# Altium schematic symbol library 心率血氧.SchLib: 7 symbols
Pins are listed as number, name and electrical type; pins without a type are passive.

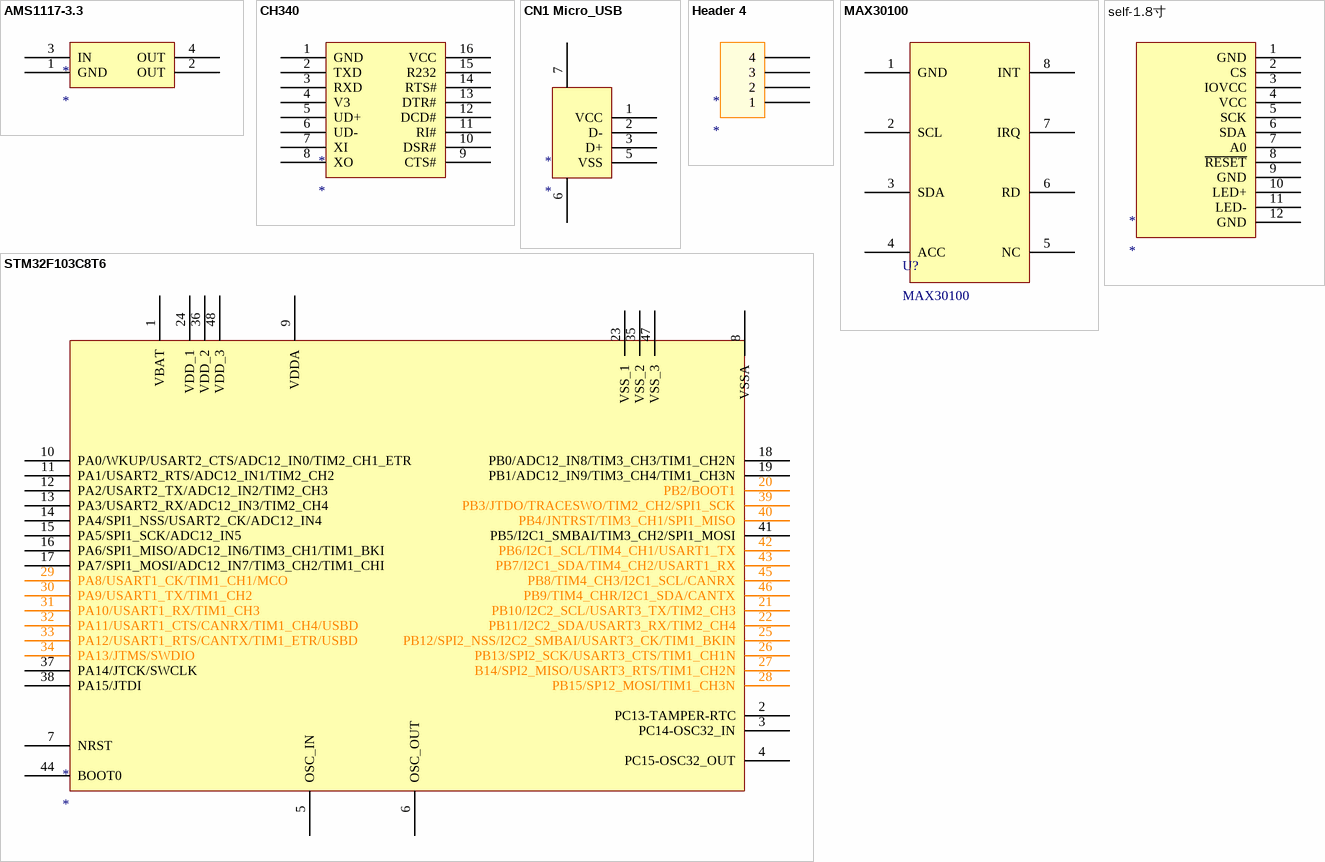
[diagram p0: symbols AMS1117-3.3 to STM32F103C8T6]

## AMS1117-3.3
designator *
pins: 1 GND, 2 OUT, 3 IN, 4 OUT

## CH340
designator *
pins: 1 GND, 2 TXD, 3 RXD, 4 V3, 5 UD+, 6 UD-, 7 XI, 8 XO, 9 CTS#, 10 DSR#, 11 RI#, 12 DCD#, 13 DTR#, 14 RTS#, 15 R232, 16 VCC

## CN1 Micro_USB
designator *
pins: 1 VCC, 2 D-, 3 D+, 5 VSS, 6 7, 7 6

## Header 4
designator *
pins: 1, 2, 3, 4

## MAX30100
designator U?
pins: 1 GND, 2 SCL, 3 SDA, 4 ACC, 5 NC, 6 RD, 7 IRQ, 8 INT

## self-1.8寸
designator *
pins: 1 GND, 2 CS, 3 IOVCC, 4 VCC, 5 SCK, 6 SDA, 7 A0, 8 ~{RESET}, 9 GND, 10 LED+, 11 LED-, 12 GND

## STM32F103C8T6
designator *
pins: 1 VBAT, 2 PC13-TAMPER-RTC, 3 PC14-OSC32_IN, 4 PC15-OSC32_OUT, 5 OSC_IN, 6 OSC_OUT, 7 NRST, 8 VSSA, 9 VDDA, 10 PA0/WKUP/USART2_CTS/ADC12_IN0/TIM2_CH1_ETR, 11 PA1/USART2_RTS/ADC12_IN1/TIM2_CH2, 12 PA2/USART2_TX/ADC12_IN2/TIM2_CH3, 13 PA3/USART2_RX/ADC12_IN3/TIM2_CH4, 14 PA4/SPI1_NSS/USART2_CK/ADC12_IN4, 15 PA5/SPI1_SCK/ADC12_IN5, 16 PA6/SPI1_MISO/ADC12_IN6/TIM3_CH1/TIM1_BKI, 17 PA7/SPI1_MOSI/ADC12_IN7/TIM3_CH2/TIM1_CHI, 18 PB0/ADC12_IN8/TIM3_CH3/TIM1_CH2N, 19 PB1/ADC12_IN9/TIM3_CH4/TIM1_CH3N, 20 PB2/BOOT1, 21 PB10/I2C2_SCL/USART3_TX/TIM2_CH3, 22 PB11/I2C2_SDA/USART3_RX/TIM2_CH4, 23 VSS_1, 24 VDD_1, 25 PB12/SPI2_NSS/I2C2_SMBAI/USART3_CK/TIM1_BKIN, 26 PB13/SPI2_SCK/USART3_CTS/TIM1_CH1N, 27 B14/SPI2_MISO/USART3_RTS/TIM1_CH2N, 28 PB15/SP12_MOSI/TIM1_CH3N, 29 PA8/USART1_CK/TIM1_CH1/MCO, 30 PA9/USART1_TX/TIM1_CH2, 31 PA10/USART1_RX/TIM1_CH3, 32 PA11/USART1_CTS/CANRX/TIM1_CH4/USBD, 33 PA12/USART1_RTS/CANTX/TIM1_ETR/USBD, 34 PA13/JTMS/SWDIO, 35 VSS_2, 36 VDD_2, 37 PA14/JTCK/SWCLK, 38 PA15/JTDI, 39 PB3/JTDO/TRACESWO/TIM2_CH2/SPI1_SCK, 40 PB4/JNTRST/TIM3_CH1/SPI1_MISO, 41 PB5/I2C1_SMBAI/TIM3_CH2/SPI1_MOSI, 42 PB6/I2C1_SCL/TIM4_CH1/USART1_TX, 43 PB7/I2C1_SDA/TIM4_CH2/USART1_RX, 44 BOOT0, 45 PB8/TIM4_CH3/I2C1_SCL/CANRX, 46 PB9/TIM4_CHR/I2C1_SDA/CANTX, 47 VSS_3, 48 VDD_3